# EAGLE library part SN74LVCH16T245 (library BoneCapeParts)
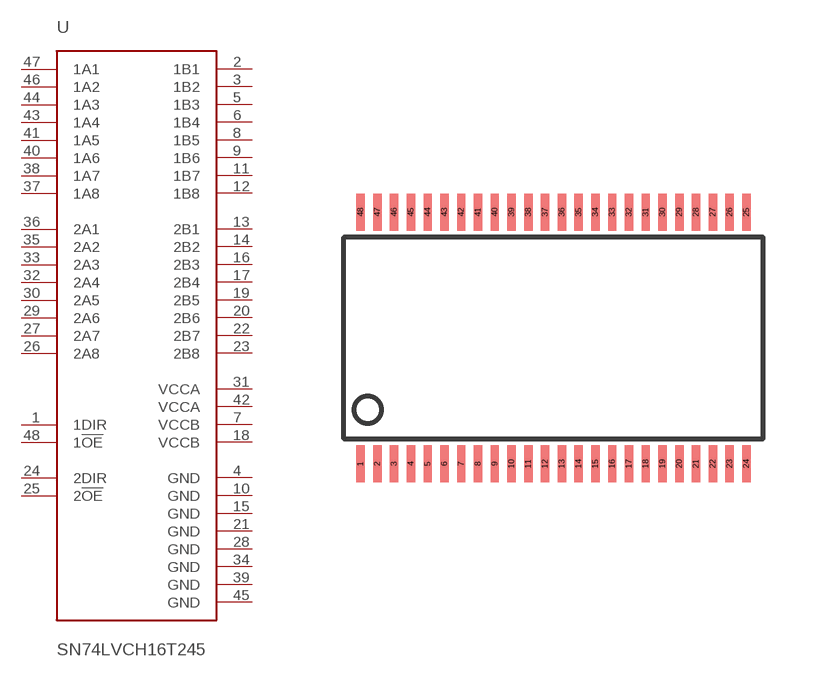
[diagram p14: symbol with the pads of TSSOP48; footprint TSSOP48]

Designator prefix -

## SN74LVCH16T245  [TSSOP48]
1  1DIR  in
2  1B1
3  1B2
4  GND  sup
5  1B3
6  1B4
7  VCCB  sup
8  1B5
9  1B6
10  GND  sup
11  1B7
12  1B8
13  2B1
14  2B2
15  GND  sup
16  2B3
17  2B4
18  VCCB  sup
19  2B5
20  2B6
21  GND  sup
22  2B7
23  2B8
24  2DIR  in
25  2!OE  in
26  2A8
27  2A7
28  GND  sup
29  2A6
30  2A5
31  VCCA  sup
32  2A4
33  2A3
34  GND  sup
35  2A2
36  2A1
37  1A8
38  1A7
39  GND  sup
40  1A6
41  1A5
42  VCCA  sup
43  1A4
44  1A3
45  GND  sup
46  1A2
47  1A1
48  1!OE  in

## Footprint TSSOP48 (pad centres in mm)
smd 0.25 x 1.1: 1 0.75,1.25; 2 1.25,1.25; 3 1.75,1.25; 4 2.25,1.25; 5 2.75,1.25; 6 3.25,1.25; 7 3.75,1.25; 8 4.25,1.25; 9 4.75,1.25; 10 5.25,1.25; 11 5.75,1.25; 12 6.25,1.25; 13 6.75,1.25; 14 7.25,1.25; 15 7.75,1.25; 16 8.25,1.25; 17 8.75,1.25; 18 9.25,1.25; 19 9.75,1.25; 20 10.25,1.25; 21 10.75,1.25; 22 11.25,1.25; 23 11.75,1.25; 24 12.25,1.25; 25 12.25,8.75; 26 11.75,8.75; 27 11.25,8.75; 28 10.75,8.75; 29 10.25,8.75; 30 9.75,8.75; 31 9.25,8.75; 32 8.75,8.75; 33 8.25,8.75; 34 7.75,8.75; 35 7.25,8.75; 36 6.75,8.75; 37 6.25,8.75; 38 5.75,8.75; 39 5.25,8.75; 40 4.75,8.75; 41 4.25,8.75; 42 3.75,8.75; 43 3.25,8.75; 44 2.75,8.75; 45 2.25,8.75; 46 1.75,8.75; 47 1.25,8.75; 48 0.75,8.75